# EAGLE library part 20X1 (library Boards)
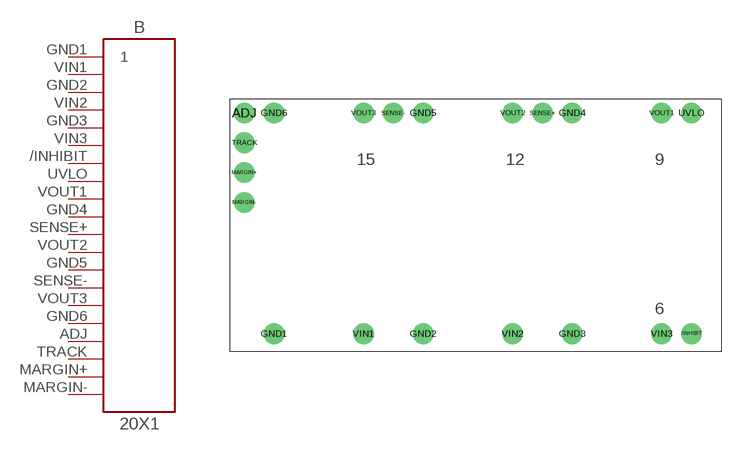
[diagram p6: symbol with the pads of PTH12040; footprint PTH12040]

Designator prefix B

## 20X1PTH12040  [PTH12040]
/INHIBIT  7
ADJ  17
GND1  1
GND2  3
GND3  5
GND4  10
GND5  13
GND6  16
MARGIN+  19
MARGIN-  20
SENSE+  11
SENSE-  14
TRACK  18
UVLO  8
VIN1  2
VIN2  4
VIN3  6
VOUT1  9
VOUT2  12
VOUT3  15

## Footprint PTH12040 (pad centres in mm)
drill 1.1 pad 2.184: /INHIBIT 22.987,-11.557; ADJ -24.638,11.938; GND1 -21.463,-11.557; GND2 -5.588,-11.557; GND3 10.287,-11.557; GND4 10.287,11.938; GND5 -5.588,11.938; GND6 -21.463,11.938; MARGIN+ -24.638,5.588; MARGIN- -24.638,2.413; SENSE+ 7.112,11.938; SENSE- -8.763,11.938; TRACK -24.638,8.763; UVLO 22.987,11.938; VIN1 -11.938,-11.557; VIN2 3.937,-11.557; VIN3 19.812,-11.557; VOUT1 19.812,11.938; VOUT2 3.937,11.938; VOUT3 -11.938,11.938